# Altium schematic symbol library SWITCH_SPST_2PIN.SchLib: 1 symbol
Pins are listed as number, name and electrical type; pins without a type are passive.

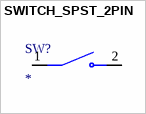
[diagram p0: symbol SWITCH_SPST_2PIN]

## SWITCH_SPST_2PIN
designator SW?
Value: *
pins: 1, 2